# EAGLE library part ESP32-PICO-D4 (library mastrogippo)
ESP32-PICO-D4 module Source: Datasheet <http://www.espressif.com/sites/default/files/documentation/esp32-pico-d4_datasheet_en.pdf>
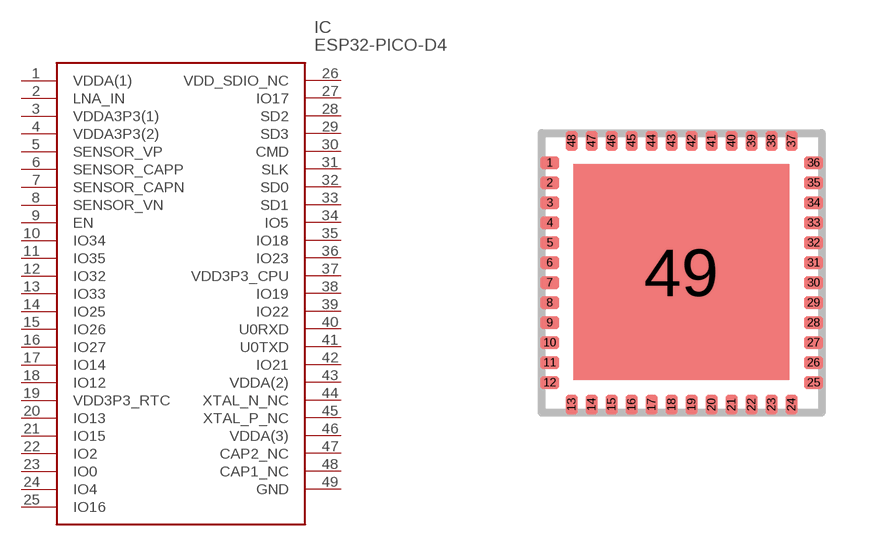
[diagram p37: symbol with the pads of ESP32-PICO-D4_1; footprint ESP32-PICO-D4_1]

Designator prefix IC

## ESP32-PICO-D4 (ARROW_PART_NUMBER: ESP32-PICO-D4; DESCRIPTION: ESP32-PICO-D4 module; HEIGHT: mm; MANUFACTURER_NAME: Espressif; MANUFACTURER_PART_NUMBER: ESP32-PICO-D4)  [ESP32-PICO-D4_1]
1  VDDA(1)
2  LNA_IN
3  VDDA3P3(1)
4  VDDA3P3(2)
5  SENSOR_VP
6  SENSOR_CAPP
7  SENSOR_CAPN
8  SENSOR_VN
9  EN
10  IO34
11  IO35
12  IO32
13  IO33
14  IO25
15  IO26
16  IO27
17  IO14
18  IO12
19  VDD3P3_RTC
20  IO13
21  IO15
22  IO2
23  IO0
24  IO4
25  IO16
26  VDD_SDIO_NC
27  IO17
28  SD2
29  SD3
30  CMD
31  SLK
32  SD0
33  SD1
34  IO5
35  IO18
36  IO23
37  VDD3P3_CPU
38  IO19
39  IO22
40  U0RXD
41  U0TXD
42  IO21
43  VDDA(2)
44  XTAL_N_NC
45  XTAL_P_NC
46  VDDA(3)
47  CAP2_NC
48  CAP1_NC
49  GND

## Footprint ESP32-PICO-D4_1 (pad centres in mm)
ESP32-PICO-D4_1
smd 0.475 x 0.3: 1 -3.3,2.75; 2 -3.3,2.25; 3 -3.3,1.75; 4 -3.3,1.25; 5 -3.3,0.75; 6 -3.3,0.25; 7 -3.3,-0.25; 8 -3.3,-0.75; 9 -3.3,-1.25; 10 -3.3,-1.75; 11 -3.3,-2.25; 12 -3.3,-2.75; 25 3.3,-2.75; 26 3.3,-2.25; 27 3.3,-1.75; 28 3.3,-1.25; 29 3.3,-0.75; 30 3.3,-0.25; 31 3.3,0.25; 32 3.3,0.75; 33 3.3,1.25; 34 3.3,1.75; 35 3.3,2.25; 36 3.3,2.75
smd 0.3 x 0.475: 13 -2.75,-3.3; 14 -2.25,-3.3; 15 -1.75,-3.3; 16 -1.25,-3.3; 17 -0.75,-3.3; 18 -0.25,-3.3; 19 0.25,-3.3; 20 0.75,-3.3; 21 1.25,-3.3; 22 1.75,-3.3; 23 2.25,-3.3; 24 2.75,-3.3; 37 2.75,3.3; 38 2.25,3.3; 39 1.75,3.3; 40 1.25,3.3; 41 0.75,3.3; 42 0.25,3.3; 43 -0.25,3.3; 44 -0.75,3.3; 45 -1.25,3.3; 46 -1.75,3.3; 47 -2.25,3.3; 48 -2.75,3.3
smd 5.4 x 5.4: 49 -0.006,0.013